# Altium footprint library Screen.PcbLib: 13 footprints
Each footprint in its own frame and in the unit in brackets; x right, y up, seen from the top. Pads: shape width x height; smd on the part's side, far side on the other; paste and mask are expansions set on the pad; w line width, h text height; cw(c..) or ccw(c..) is an arc to the next point about the centre after c.
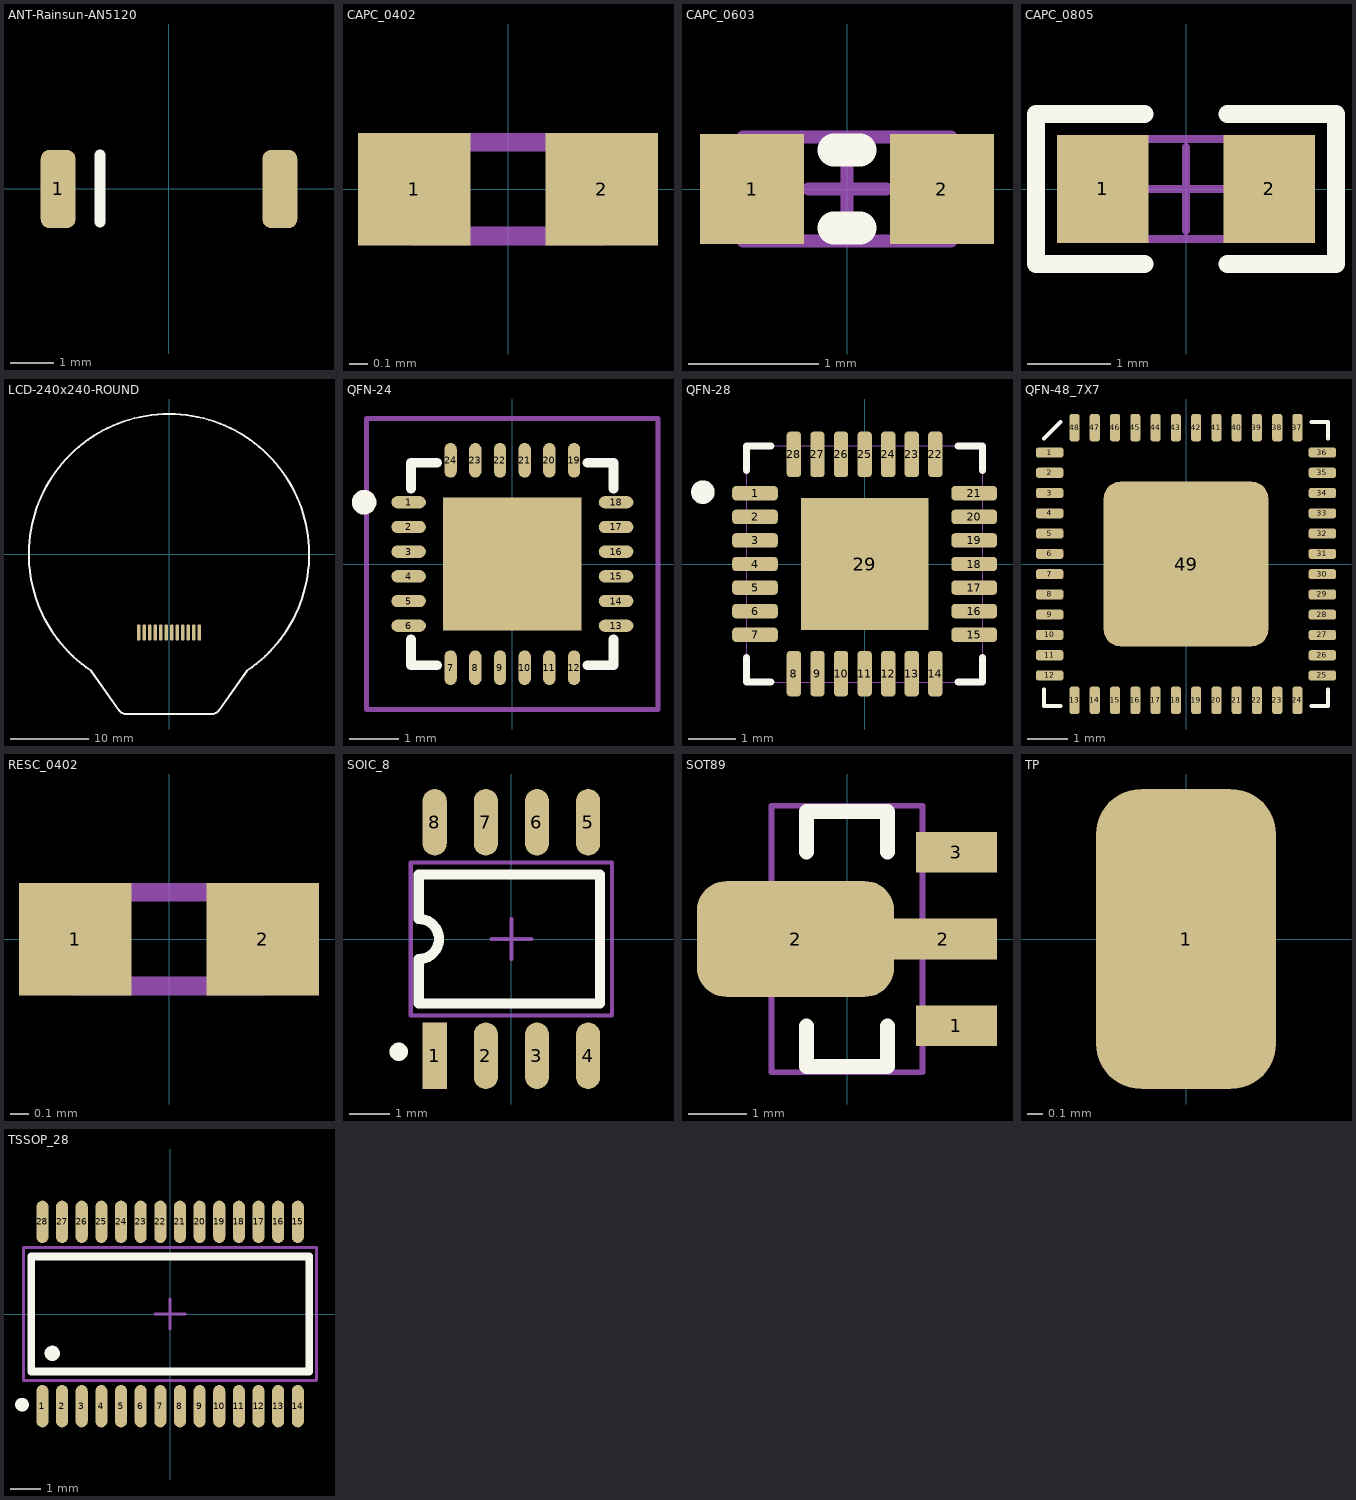
[diagram p0: the footprints below, top view; thin cyan lines are the x and y axes]

## ANT-Rainsun-AN5120 [mm] "选择焊盘"
height 4.3
pads (2):
  rrect50% 0.8x1.8 smd: 1(-2.54,0) ""(2.563,0)
Top Overlay:
  lines w0.254: -1.575,-0.762 -1.575,0.787
3D body "123.stp": height 1.32, standoff -0.01, extent -2.573,-0.911 2.542,0.935

## CAPC_0402 [mm]
pads (2):
  rect 0.6x0.6 smd mask+0.051: 1(-0.5,0) 2(0.5,0)
Mechanical 15:
  lines w0.1: -0.5,-0.25 0.5,-0.25 0.5,0.25 -0.5,0.25 -0.5,-0.25
3D body "CAPC1005(0402).STEP": height 0.5, standoff 0, extent -0.5,-0.25 0.5,0.25

## CAPC_0603 [mm]
pads (2):
  rect 0.8x0.85 smd: 1(-0.73,0) 2(0.73,0)
Top Overlay:
  lines w0.254: -0.1,-0.3 0.1,-0.3 ; -0.1,0.3 0.1,0.3
Mechanical 15:
  lines w0.1: -0.297,0 0.303,0 ; 0,-0.3 0,0.3 ; -0.8,-0.4 -0.8,0.4 0.8,0.4 0.8,-0.4 -0.8,-0.4
3D body "CAPC1608(0603).STEP": height 0.6, standoff 0, extent -0.8,-0.4 0.8,0.4

## CAPC_0805 [mm]
pads (2):
  rect 1.1x1.3 smd: 1(-1,0) 2(1,0)
Top Overlay:
  lines w0.22: -0.5,-0.9 -1.8,-0.9 -1.8,0.9 -0.5,0.9 ; 0.5,-0.9 1.8,-0.9 1.8,0.9 0.5,0.9
Mechanical 15:
  lines w0.1: -0.5,0 0.5,0 ; 0,-0.5 0,0.5 ; -1,-0.6 1,-0.6 1,0.6 -1,0.6 -1,-0.6
3D body "CAPC2012(0805).STEP": height 0.95, standoff 0, extent -1,-0.6 1,0.6

## LCD-240x240-ROUND [mm]
height 0.8
pads (12):
  rrect50% 0.4x2.032 smd: 1(3.85,-9.951) 2(3.15,-9.951) 3(2.45,-9.951) 4(1.75,-9.951) 5(1.05,-9.951) 6(0.35,-9.951) 7(-0.35,-9.951) 8(-1.05,-9.951) 9(-1.75,-9.951) 10(-2.45,-9.951) 11(-3.15,-9.951) 12(-3.85,-9.951)
Top Overlay:
  lines w0.254: -9.911,-14.785 cw(c0,0) 9.911,-14.785 6.304,-19.87 cw(c5.473,-19.281) 5.473,-20.3 -5.474,-20.3 cw(c-5.474,-19.281) -6.305,-19.87 -9.911,-14.785
3D body "scr.step": height -0.5, standoff -2.05, extent -17.799,-20.3 17.799,17.8

## QFN-24 [mm] "QFN, 24-Leads, Body 4.1x4.1mm (max), Pitch 0.50mm, IPC Low Density"
height 0.95
pads (25):
  oval 0.7x0.25 smd: 1(-2.1,1.25) 2(-2.1,0.75) 3(-2.1,0.25) 4(-2.1,-0.25) 5(-2.1,-0.75) 6(-2.1,-1.25) 13(2.1,-1.25) 14(2.1,-0.75) 15(2.1,-0.25) 16(2.1,0.25) 17(2.1,0.75) 18(2.1,1.25)
  oval 0.25x0.7 smd: 7(-1.25,-2.1) 8(-0.75,-2.1) 9(-0.25,-2.1) 10(0.25,-2.1) 11(0.75,-2.1) 12(1.25,-2.1) 19(1.25,2.1) 20(0.75,2.1) 21(0.25,2.1) 22(-0.25,2.1) 23(-0.75,2.1) 24(-1.25,2.1)
  rect 2.8x2.7 smd: ""(0,0)
Top Overlay:
  circle w0.25: c-3,1.25 r0.125
  lines w0.2: -2.05,-1.525 -2.05,-2.05 -1.525,-2.05 ; -2.05,1.525 -2.05,2.05 -1.525,2.05 ; 1.525,-2.05 2.05,-2.05 2.05,-1.525 ; 1.525,2.05 2.05,2.05 2.05,1.525
Mechanical 15:
  lines w0.1: -0.5,0 0.5,0 ; 0,-0.5 0,0.5 ; -2.95,-2.95 -2.95,2.95 2.95,2.95 2.95,-2.95 -2.95,-2.95
3D body "User Library-mpu-6050_qfn-24.stp": height 0.95, standoff 0.05, extent -2.02,-2.02 2.02,2.02

## QFN-28 [mil]
height 169.29
pads (29):
  rrect50% 38x12 smd mask+5: 1(-91.5,59.06) 2(-91.5,39.37) 3(-91.5,19.68) 4(-91.5,0) 5(-91.5,-19.68) 6(-91.5,-39.37) 7(-91.5,-59.06) 15(91.5,-59.06) 16(91.5,-39.37) 17(91.5,-19.68) 18(91.5,0) 19(91.5,19.68) 20(91.5,39.37) 21(91.5,59.06)
  rrect50% 12x38 smd mask+5: 8(-59.06,-91.5) 9(-39.37,-91.5) 10(-19.68,-91.5) 11(0,-91.5) 12(19.68,-91.5) 13(39.37,-91.5) 14(59.06,-91.5) 22(59.06,91.5) 23(39.37,91.5) 24(19.68,91.5) 25(0,91.5) 26(-19.68,91.5) 27(-39.37,91.5) 28(-59.06,91.5)
  rect 106.3x110.24 smd: 29(0,0)
Top Overlay:
  circle w9.84: c-135,60 r4.92
  lines w6: -98.5,-78.16 -98.5,-98.5 -78.16,-98.5 ; -98.5,78.16 -98.5,98.5 -78.16,98.5 ; 78.16,-98.5 98.5,-98.5 98.5,-78.16 ; 78.16,98.5 98.5,98.5 98.5,78.16
Mechanical 1:
  lines w0: -98.5,-98.5 -98.5,98.5 98.5,98.5 98.5,-98.5 -98.5,-98.5 ; -98.5,-65.06 -98.5,-53.06 -98.5,-65.06 ; -98.5,-45.37 -98.5,-33.37 -98.5,-45.37 ; -98.5,-25.68 -98.5,-13.69 -98.5,-25.68 ; -98.5,-6 -98.5,6 -98.5,-6 ; -98.5,13.69 -98.5,25.68 -98.5,13.69 ; -98.5,33.37 -98.5,45.37 -98.5,33.37 ; -98.5,53.06 -98.5,65.06 -98.5,53.06 ; -65.06,-98.5 -53.06,-98.5 -65.06,-98.5 ; -65.06,98.5 -53.06,98.5 -65.06,98.5 ; -45.37,-98.5 -33.37,-98.5 -45.37,-98.5 ; -45.37,98.5 -33.37,98.5 -45.37,98.5 ; -25.68,-98.5 -13.69,-98.5 -25.68,-98.5 ; -25.68,98.5 -13.69,98.5 -25.68,98.5 ; -6,-98.5 6,-98.5 -6,-98.5 ; -6,98.5 6,98.5 -6,98.5 ; 13.69,-98.5 25.68,-98.5 13.69,-98.5 ; 13.69,98.5 25.68,98.5 13.69,98.5 ; 33.37,-98.5 45.37,-98.5 33.37,-98.5 ; 33.37,98.5 45.37,98.5 33.37,98.5 ; 53.06,-98.5 65.06,-98.5 53.06,-98.5 ; 53.06,98.5 65.06,98.5 53.06,98.5 ; 98.5,-65.06 98.5,-53.06 98.5,-65.06 ; 98.5,-45.37 98.5,-33.37 98.5,-45.37 ; 98.5,-25.68 98.5,-13.69 98.5,-25.68 ; 98.5,-6 98.5,6 98.5,-6 ; 98.5,13.69 98.5,25.68 98.5,13.69 ; 98.5,33.37 98.5,45.37 98.5,33.37 ; 98.5,53.06 98.5,65.06 98.5,53.06
3D body "321.stp": height 35.43, standoff 0, extent -98.5,-98.5 98.35,98.35

## QFN-48_7X7 [mm]
height 4.3
pads (49):
  rrect50% 0.675x0.25 smd: 1(-3.363,2.75) 2(-3.363,2.25) 3(-3.363,1.75) 4(-3.363,1.25) 5(-3.363,0.75) 6(-3.363,0.25) 7(-3.363,-0.25) 8(-3.363,-0.75) 9(-3.363,-1.25) 10(-3.363,-1.75) 11(-3.363,-2.25) 12(-3.363,-2.75) 25(3.363,-2.75) 26(3.363,-2.25) 27(3.363,-1.75) 28(3.363,-1.25) 29(3.363,-0.75) 30(3.363,-0.25) 31(3.363,0.25) 32(3.363,0.75) 33(3.363,1.25) 34(3.363,1.75) 35(3.363,2.25) 36(3.363,2.75)
  rrect50% 0.25x0.675 smd: 13(-2.75,-3.363) 14(-2.25,-3.363) 15(-1.75,-3.363) 16(-1.25,-3.363) 17(-0.75,-3.363) 18(-0.25,-3.363) 19(0.25,-3.363) 20(0.75,-3.363) 21(1.25,-3.363) 22(1.75,-3.363) 23(2.25,-3.363) 24(2.75,-3.363) 37(2.75,3.363) 38(2.25,3.363) 39(1.75,3.363) 40(1.25,3.363) 41(0.75,3.363) 42(0.25,3.363) 43(-0.25,3.363) 44(-0.75,3.363) 45(-1.25,3.363) 46(-1.75,3.363) 47(-2.25,3.363) 48(-2.75,3.363)
  rrect20% 4.064x4.064 smd: 49(0,0)
Top Overlay:
  lines w0.1: -3.5,-3.1 -3.5,-3.5 -3.1,-3.5 ; -3.5,3.1 -3.1,3.5 ; 3.1,-3.5 3.5,-3.5 3.5,-3.1 ; 3.1,3.5 3.5,3.5 3.5,3.1
3D body: height 1, standoff 0.05, extent -3.5,-3.5 3.5,3.5

## RESC_0402 [mm]
pads (2):
  rect 0.6x0.6 smd: 1(-0.5,0) 2(0.5,0)
Mechanical 15:
  lines w0.1: -0.5,-0.25 0.5,-0.25 0.5,0.25 -0.5,0.25 -0.5,-0.25
3D body "RESC1005(0402).STEP": height 0.38, standoff 0, extent -0.5,-0.25 0.5,0.25

## SOIC_8 [mm]
pads (8):
  rect 0.6x1.65 smd: 1(-1.905,-2.9)
  oval 0.6x1.65 smd: 2(-0.635,-2.9) 3(0.635,-2.9) 4(1.905,-2.9) 5(1.905,2.9) 6(0.635,2.9) 7(-0.635,2.9) 8(-1.905,2.9)
Top Overlay:
  circle w0.254: c-2.8,-2.8 r0.1
  lines w0.254: -2.3,-1.6 2.2,-1.6 2.2,1.6 -2.3,1.6 -2.3,0.5 cw(c-2.3,0) -2.3,-0.5 -2.3,-1.6
Mechanical 15:
  lines w0.1: -0.5,0 0.5,0 ; 0,-0.5 0,0.5 ; -2.5,-1.9 2.5,-1.9 2.5,1.9 -2.5,1.9 -2.5,-1.9
3D body "SOIC8.STEP": height 1.75, standoff 0, extent -2.5,-3.006 2.5,3.006

## SOT89 [mm]
pads (4):
  rect 1.4x0.7 smd: 1(1.887,-1.5) 3(1.887,1.5)
  rrect50% 3.4x2 smd: 2(-0.888,0)
  rect 1.85x0.7 smd: 2(1.662,0)
Top Overlay:
  lines w0.254: -0.7,-1.5 -0.7,-2.2 0.7,-2.2 0.7,-1.5 ; -0.7,1.5 -0.7,2.2 0.7,2.2 0.7,1.5
Mechanical 15:
  lines w0.1: -1.3,-2.3 1.3,-2.3 1.3,2.3 -1.3,2.3 -1.3,-2.3
3D body "SOT89.STEP": height 1.62, standoff 0.01, extent -2.077,-2.317 2.173,2.283

## TP [mm]
pads (1):
  rrect50% 1.2x2 smd: 1(0,0)

## TSSOP_28 [mm] "0.65"
pads (28):
  oval 0.4x1.4 smd: 1(-4.225,-3.05) 2(-3.575,-3.05) 3(-2.925,-3.05) 4(-2.275,-3.05) 5(-1.625,-3.05) 6(-0.975,-3.05) 7(-0.325,-3.05) 8(0.325,-3.05) 9(0.975,-3.05) 10(1.625,-3.05) 11(2.275,-3.05) 12(2.925,-3.05) 13(3.575,-3.05) 14(4.225,-3.05) 15(4.225,3.05) 16(3.575,3.05) 17(2.925,3.05) 18(2.275,3.05) 19(1.625,3.05) 20(0.975,3.05) 21(0.325,3.05) 22(-0.325,3.05) 23(-0.975,3.05) 24(-1.625,3.05) 25(-2.275,3.05) 26(-2.925,3.05) 27(-3.575,3.05) 28(-4.225,3.05)
Top Overlay:
  circle w0.3: c-3.9,-1.3 r0.1
  circle w0.254: c-4.9,-3 r0.1
  lines w0.254: -4.6,-1.9 4.6,-1.9 4.6,1.9 -4.6,1.9 -4.6,-1.9
Mechanical 15:
  lines w0.1: -0.5,0 0.5,0 ; 0,-0.5 0,0.5 ; -4.85,-2.2 4.85,-2.2 4.85,2.2 -4.85,2.2 -4.85,-2.2
3D body "TSSOP-28.STEP": height 1.2, standoff 0, extent -4.85,-3.2 4.85,3.2